# EAGLE library part MCP73871 (library microchip-battery)
Stand-Alone System Load Sharing and Li-Ion / Li-Polymer Battery Charge Managemen The MCP73871 device is a 1A fully integrated linear solution for system load sharing and Li-Ion / Li-Polymer battery charge management with AC-DC wall adapter and USB port power sources selection. It?s also capable of autonomous power source selection between input or battery. The MCP73871 device employs a constant current/constant voltage (CC/CV) charge algorithm with selectable charge termination point. The constant voltage regulation is fixed with four available options: 4.10V, 4.20V, 4.35V, or 4.40V.
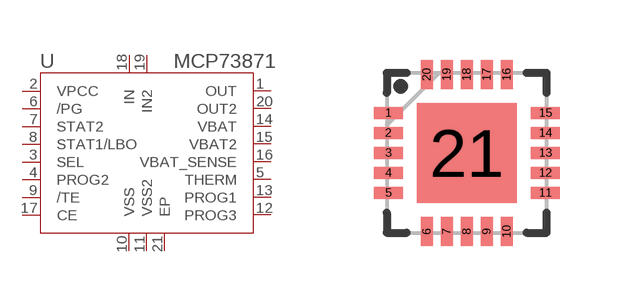
[diagram p0: symbol with the pads of QFN20-4X4; footprint QFN20-4X4]

Designator prefix -

## MCP73871-1AAI/ML (LBO: Disable; SAFETYTIMER: Disable; VREG: 4.10V), MCP73871-1CAI/ML (LBO: Disable; SAFETYTIMER: 6 Hours; VREG: 4.10V), MCP73871-1CCI/ML (LBO: 3.1 V; SAFETYTIMER: 6 Hours; VREG: 4.10V), MCP73871-2AAI/ML (LBO: Disable; SAFETYTIMER: Disable; VREG: 4.20V), MCP73871-2CAI/ML (LBO: Disable; SAFETYTIMER: 6 Hours; VREG: 4.20V), MCP73871-2CCI/ML (LBO: 3.1 V; SAFETYTIMER: 6 Hours; VREG: 4.20V), MCP73871-3CAI/ML (LBO: Disable; SAFETYTIMER: 6 Hours; VREG: 4.35V), MCP73871-3CCI/ML (LBO: 3.1 V; SAFETYTIMER: 6 Hours; VREG: 4.35V), MCP73871-4CAI/ML (LBO: Disable; SAFETYTIMER: 6 Hours; VREG: 4.40V), MCP73871-4CCI/ML (LBO: 3.1 V; SAFETYTIMER: 6 Hours; VREG: 4.40V)  [QFN20-4X4]
1  OUT  sup
2  VPCC  in
3  SEL  in
4  PROG2  in
5  THERM
6  /PG  oc
7  STAT2  oc
8  STAT1/LBO  oc
9  /TE  in
10  VSS  pwr
11  VSS2  pwr
12  PROG3
13  PROG1
14  VBAT
15  VBAT2
16  VBAT_SENSE
17  CE  in
18  IN  pwr
19  IN2  pwr
20  OUT2  sup
21  EP  pwr

## Footprint QFN20-4X4 (pad centres in mm)
20-Lead Plastic Quad Flat, No Lead Package (ML) - 4x4x0.9 mm Body [QFN] microchip.com
smd 0.73 x 0.3: 1 -1.965,1; 2 -1.965,0.5; 3 -1.965,0; 4 -1.965,-0.5; 5 -1.965,-1; 11 1.965,-1; 12 1.965,-0.5; 13 1.965,0; 14 1.965,0.5; 15 1.965,1
smd 0.3 x 0.73: 6 -1,-1.965; 7 -0.5,-1.965; 8 0,-1.965; 9 0.5,-1.965; 10 1,-1.965; 16 1,1.965; 17 0.5,1.965; 18 0,1.965; 19 -0.5,1.965; 20 -1,1.965
smd 2.5 x 2.5: 21 0,0